# Altium schematic symbol library APD_flex_R02.SCHLIB: 5 symbols
Pins are listed as number, name and electrical type; pins without a type are passive.

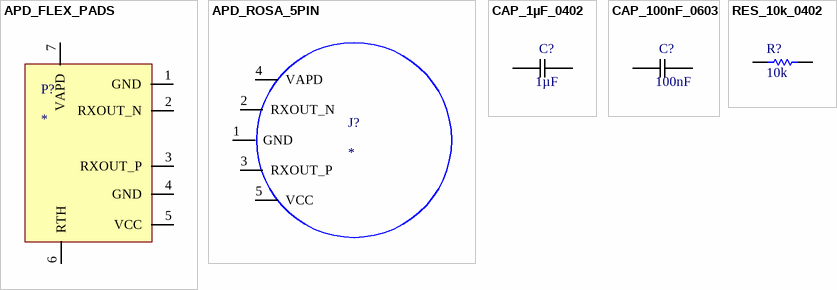
[diagram p0: symbols APD_FLEX_PADS to RES_10k_0402]

## APD_FLEX_PADS
designator P?
footprint FLEX_7PADS
pins: 1 GND, 2 RXOUT_N, 3 RXOUT_P, 4 GND, 5 VCC, 6 RTH, 7 VAPD

## APD_ROSA_5PIN
designator J?
footprint APD_5PINS
pins: 1 GND, 2 RXOUT_N, 3 RXOUT_P, 4 VAPD, 5 VCC

## CAP_1µF_0402
designator C?, comment 1µF
1µF_0402; Manufacturer: Samsung Electro-Mechanics; Manufacturer Part Number: CL05A105KP5NNNC; Value: 1uF; Voltage: 10V; Supplier: Digi-Key; Supplier Part Number: 1276-1076-2-ND
footprint 0402
pins: 1, 2

## CAP_100nF_0603
designator C?, comment 100nF
100nF_0603; Manufacturer: Murata Electronics North America; Manufacturer Part Number: GRM188R72A104KA35D; Voltage: 100V; Supplier: Digi-Key; Value: 100nF; Supplier Part Number: 490-3285-2-ND
footprint 0603
pins: 1, 2

## RES_10k_0402
designator R?, comment 10k
10K_0402_Termistor; Manufacturer: Vishay BC Components; Manufacturer Part Number: NTCS0402E3103FLT; Supplier Part Number: BC2534TR-ND; Supplier: Digi-Key; Value: 10k
footprint 0402
pins: 1, 2